# Altium footprint library DIP, Shrink - Stub Leads.PcbLib: 3 footprints
Each footprint in its own frame and in the unit in brackets; x right, y up, seen from the top. Pads: shape width x height; smd on the part's side, far side on the other; paste and mask are expansions set on the pad; w line width, h text height; cw(c..) or ccw(c..) is an arc to the next point about the centre after c.
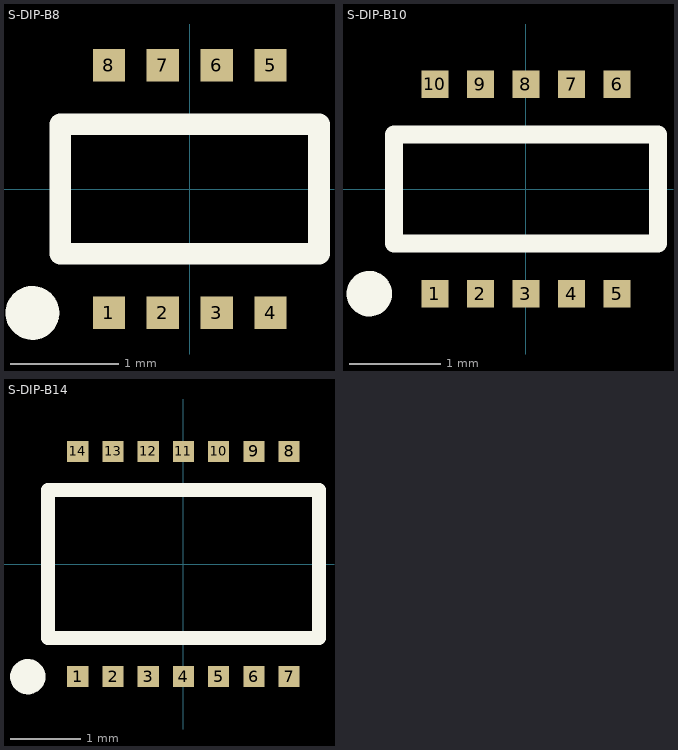
[diagram p0: the footprints below, top view; thin cyan lines are the x and y axes]

## S-DIP-B8 [mm] "Shrink DIP; 8 Stub Leads; Row Spacing 2.28 mm; Pitch 0.5 mm"
height 1.15
pads (8):
  rect 0.3x0.3 smd: 1(-0.75,-1.15) 2(-0.25,-1.15) 3(0.25,-1.15) 4(0.75,-1.15) 5(0.75,1.15) 6(0.25,1.15) 7(-0.25,1.15) 8(-0.75,1.15)
Top Overlay:
  circle w0.25: c-1.46,-1.15 r0.125
  lines w0.2: -1.2,-0.6 1.2,-0.6 1.2,0.6 -1.2,0.6 -1.2,-0.6

## S-DIP-B10 [mm] "Shrink DIP; 10 Stub Leads; Row Spacing 2.28 mm; Pitch 0.5 mm"
height 1.15
pads (10):
  rect 0.3x0.3 smd: 1(-1,-1.15) 2(-0.5,-1.15) 3(0,-1.15) 4(0.5,-1.15) 5(1,-1.15) 6(1,1.15) 7(0.5,1.15) 8(0,1.15) 9(-0.5,1.15) 10(-1,1.15)
Top Overlay:
  circle w0.25: c-1.72,-1.15 r0.125
  lines w0.2: -1.45,-0.6 -1.45,0.6 1.45,0.6 1.45,-0.6 -1.45,-0.6

## S-DIP-B14 [mm] "Shrink DIP; 14 Stub Leads; Row Spacing 3.2 mm; Pitch 0.5 mm"
height 1.15
pads (14):
  rect 0.3x0.3 smd: 1(-1.5,-1.6) 2(-1,-1.6) 3(-0.5,-1.6) 4(0,-1.6) 5(0.5,-1.6) 6(1,-1.6) 7(1.5,-1.6) 8(1.5,1.6) 9(1,1.6) 10(0.5,1.6) 11(0,1.6) 12(-0.5,1.6) 13(-1,1.6) 14(-1.5,1.6)
Top Overlay:
  circle w0.25: c-2.21,-1.6 r0.125
  lines w0.2: -1.925,-1.05 -1.925,1.05 1.925,1.05 1.925,-1.05 -1.925,-1.05